# Altium schematic symbol library proMini.SchLib: 1 symbol
Pins are listed as number, name and electrical type; pins without a type are passive.

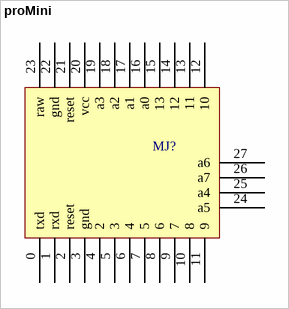
[diagram p0: symbol proMini]

## proMini
designator MJ?, comment MJ?  (value not drawn)
footprint proMini
pins: 0 txd, 1 rxd, 2 reset, 3 gnd, 4 2, 5 3, 6 4, 7 5, 8 6, 9 7, 10 8, 11 9, 12 10, 13 11, 14 12, 15 13, 16 a0, 17 a1, 18 a2, 19 a3, 20 vcc, 21 reset, 22 gnd, 23 raw, 24 a5, 25 a4, 26 a7, 27 a6